# Altium integrated library load.IntLib: 14 symbols
Pins are listed as number, name and electrical type; pins without a type are passive.

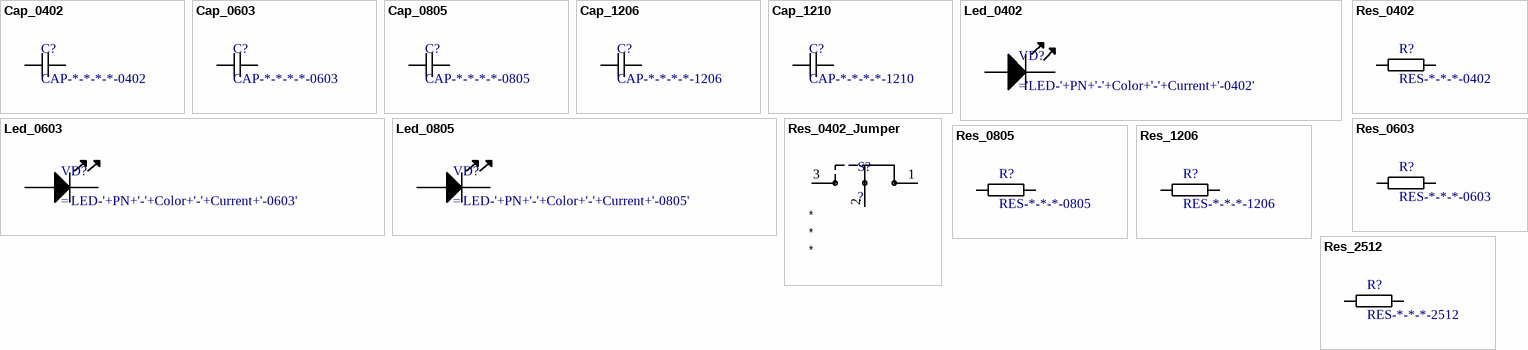
[diagram p0: symbols Cap_0402 to Res_2512]

## Cap_0402
designator C?, comment CAP-*-*-*-*-0402
Конденсатор; Supplier 1: *; Tolerance: *; Voltage: *; Manufacturer Part Number: *; Temperature: *; Value: *
footprint CAP-0402
pins: 1, 2

## Cap_0603
designator C?, comment CAP-*-*-*-*-0603
Конденсатор; Value: *; Tolerance: *; Voltage: *; Manufacturer Part Number: *; Temperature: *; Supplier 1: *
footprint CAP-0603
pins: 1, 2

## Cap_0805
designator C?, comment CAP-*-*-*-*-0805
Конденсатор; Value: *; Tolerance: *; Voltage: *; Manufacturer Part Number: *; Temperature: *; Supplier 1: *
footprint CAP-0805
pins: 1, 2

## Cap_1206
designator C?, comment CAP-*-*-*-*-1206
Конденсатор; Value: *; Voltage: *; Tolerance: *; Manufacturer Part Number: *; Temperature: *; Supplier 1: *
footprint CAP_1206
pins: 1, 2

## Cap_1210
designator C?, comment CAP-*-*-*-*-1210
Конденсатор; Value: *; Voltage: *; Tolerance: *; Manufacturer Part Number: *; Temperature: *; Supplier 1: *
footprint CAP_1210
pins: 1, 2

## Led_0402
designator VD?
Светодиод; Manufacturer Part Number: *; Supplier 1: *
footprint LED-0402
pins: A, K

## Led_0603
designator VD?
Светодиод; Manufacturer Part Number: *; Supplier 1: *
footprint LED-0603
pins: 1 A, 2 K

## Led_0805
designator VD?
Светодиод; Manufacturer Part Number: *; Supplier 1: *
footprint LED-0805
pins: 1 A, 2 K

## Res_0402
designator R?, comment RES-*-*-*-0402
Резистор; Value: *; Tolerance: *; Power: *; Manufacturer Part Number: *; Supplier 1: *
footprint RES-0402
pins: 1, 2

## Res_0402_Jumper
designator S?, comment ?  (net tie, no BOM)
Перемычка 0402; Supplier 1: https://www.chipdip.ru/product/ac0402fr-070rl-chip-0402-0-1-tolstoplenochnyy-yageo-8038947146; Curciut 3: *; Curciut 2: *; Curciut 1: *
footprint RES-0402-JUMPER
pins: 1, 2, 3 1

## Res_0603
designator R?, comment RES-*-*-*-0603
Резистор; Value: *; Power: *; Tolerance: *; Manufacturer Part Number: *; Supplier 1: *
footprint RES-0603
pins: 1, 2

## Res_0805
designator R?, comment RES-*-*-*-0805
Резистор; Value: *; Power: *; Tolerance: *; Manufacturer Part Number: *; Supplier 1: *
footprint RES-0805
pins: 1, 2

## Res_1206
designator R?, comment RES-*-*-*-1206
Резистор; Value: *; Tolerance: *; Power: *; Manufacturer Part Number: *; Supplier 1: *
footprint RES-1206
pins: 1, 2

## Res_2512
designator R?, comment RES-*-*-*-2512
Резистор; Value: *; Power: *; Tolerance: *; Manufacturer Part Number: *; Supplier 1: *
footprint RES-2512
pins: 1, 2